# EAGLE library part M61571AFP (library Audio-Power-amlifier V.2.0)
M61571AFP is a Digital power amplifier IC developed for home audio. M61571AFP can realize maximum Power 50W × 2ch(VD = 21V,THD = 10%, BTL) at 4 Ω load. It is possible to replace from the conventional analog amplifier system to the digital amplifier system easily. Refer to "http://www.renesas.com/en/network" for the latest and detailed information.
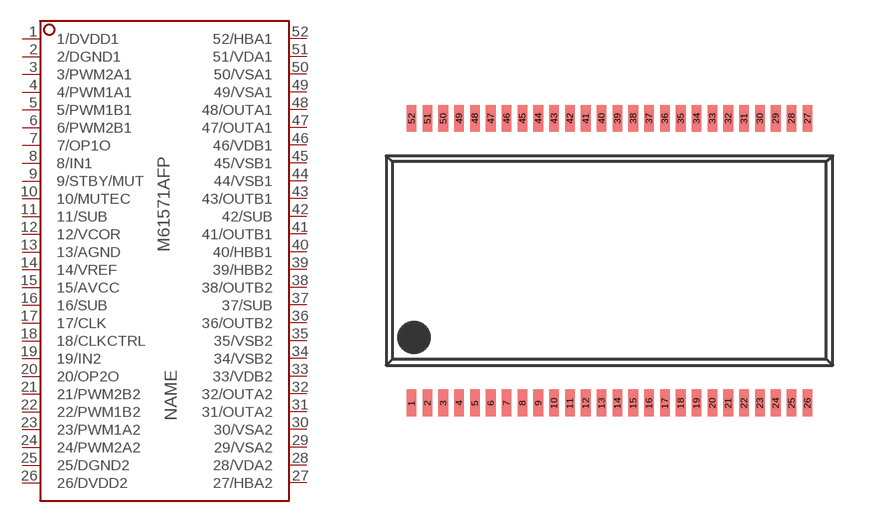
[diagram p181: symbol with the pads of HSSOP52-8.4X17.5-0.65; footprint HSSOP52-8.4X17.5-0.65]

Designator prefix IC

## M61571AFP  [HSSOP52-8.4X17.5-0.65]
1  1/DVDD1  pwr
2  2/DGND1  pwr
3  3/PWM2A1
4  4/PWM1A1
5  5/PWM1B1
6  6/PWM2B1
7  7/OP1O  out
8  8/IN1  in
9  9/STBY/MUT  in
10  10/MUTEC  in
11  11/SUB
12  12/VCOR
13  13/AGND  pwr
14  14/VREF  pwr
15  15/AVCC  pwr
16  16/SUB
17  17/CLK
18  18/CLKCTRL
19  19/IN2  in
20  20/OP2O  out
21  21/PWM2B2
22  22/PWM1B2
23  23/PWM1A2
24  24/PWM2A2
25  25/DGND2  pwr
26  26/DVDD2  pwr
27  27/HBA2
28  28/VDA2  pwr
29  29/VSA2  out
30  30/VSA2  out
31  31/OUTA2  out
32  32/OUTA2  out
33  33/VDB2  pwr
34  34/VSB2  pwr
35  35/VSB2  pwr
36  36/OUTB2  pwr
37  37/SUB
38  38/OUTB2  out
39  39/HBB2
40  40/HBB1
41  41/OUTB1  out
42  42/SUB
43  43/OUTB1  out
44  44/VSB1  out
45  45/VSB1  out
46  46/VDB1  out
47  47/OUTA1  out
48  48/OUTA1  out
49  49/VSA1  out
50  50/VSA1  out
51  51/VDA1  out
52  52/HBA1

## Footprint HSSOP52-8.4X17.5-0.65 (pad centres in mm)
P-HSSOP52-8.4x17.5-0.65
smd 0.4 x 1.1: 1 -7.8,-5.85; 2 -7.15,-5.85; 3 -6.5,-5.85; 4 -5.85,-5.85; 5 -5.2,-5.85; 6 -4.55,-5.85; 7 -3.9,-5.85; 8 -3.25,-5.85; 9 -2.6,-5.85; 10 -1.95,-5.85; 11 -1.3,-5.85; 12 -0.65,-5.85; 13 0,-5.85; 14 0.65,-5.85; 15 1.3,-5.85; 16 1.95,-5.85; 17 2.6,-5.85; 18 3.25,-5.85; 19 3.9,-5.85; 20 4.55,-5.85; 21 5.2,-5.85; 22 5.85,-5.85; 23 6.5,-5.85; 24 7.15,-5.85; 25 7.8,-5.85; 26 8.45,-5.85; 27 8.45,5.85; 28 7.8,5.85; 29 7.15,5.85; 30 6.5,5.85; 31 5.85,5.85; 32 5.2,5.85; 33 4.55,5.85; 34 3.9,5.85; 35 3.25,5.85; 36 2.6,5.85; 37 1.95,5.85; 38 1.3,5.85; 39 0.65,5.85; 40 0,5.85; 41 -0.65,5.85; 42 -1.3,5.85; 43 -1.95,5.85; 44 -2.6,5.85; 45 -3.25,5.85; 46 -3.9,5.85; 47 -4.55,5.85; 48 -5.2,5.85; 49 -5.85,5.85; 50 -6.5,5.85; 51 -7.15,5.85; 52 -7.8,5.85